# EAGLE library part DS1302Z (library Maxim Integrated)
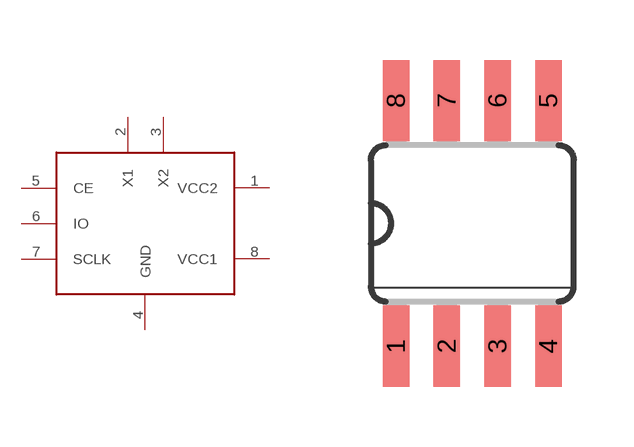
[diagram p0: symbol with the pads of 8-SOIC; footprint 8-SOIC]

Designator prefix -

## DS1302Z  [8-SOIC]
1  VCC2
2  X1
3  X2
4  GND
5  CE
6  IO
7  SCLK
8  VCC1

## Footprint 8-SOIC (pad centres in mm)
smd 0.66 x 2.032: 1 -1.905,-3.073; 2 -0.635,-3.073; 3 0.635,-3.073; 4 1.905,-3.073; 5 1.905,3.073; 6 0.635,3.073; 7 -0.635,3.073; 8 -1.905,3.073